# Altium footprint library Smart 4S and 5S switchable BMS [BQ769200].PcbLib: 27 footprints (part 2 of 2)
Each footprint in its own frame and in the unit in brackets; x right, y up, seen from the top. Pads: shape width x height; smd on the part's side, far side on the other; paste and mask are expansions set on the pad; w line width, h text height; cw(c..) or ccw(c..) is an arc to the next point about the centre after c.
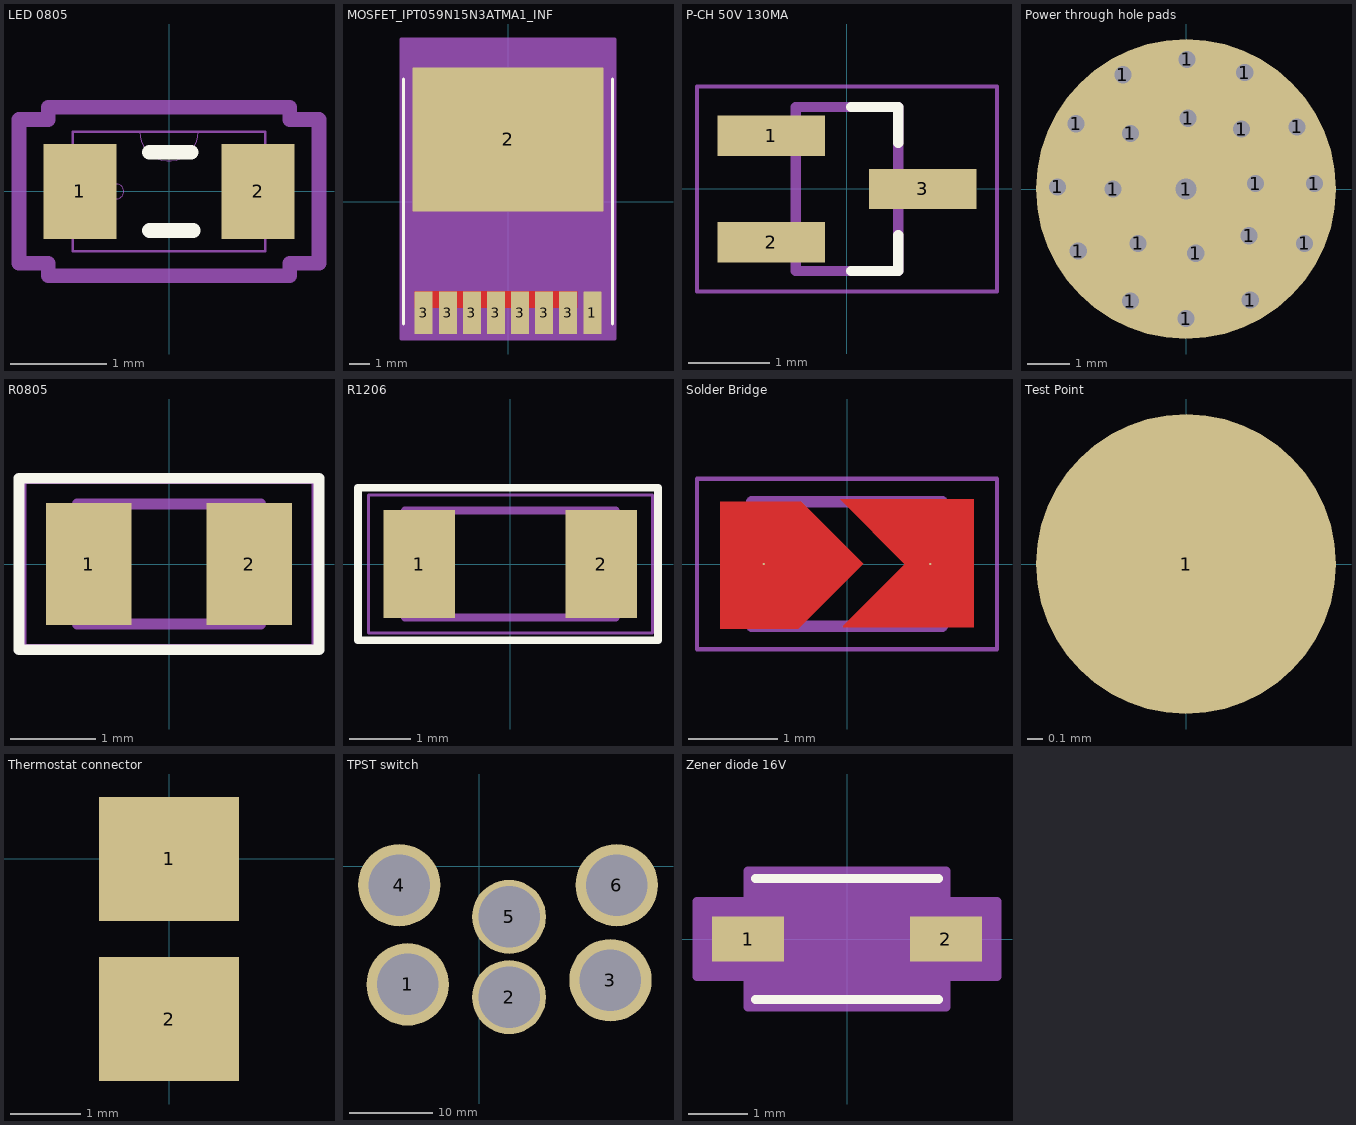
[diagram p1: the footprints below, top view; thin cyan lines are the x and y axes]

## LED 0805 [mil]
pads (2):
  rect 30x39 smd paste+0 mask+0: 1(-36.5,0) 2(36.5,0)
Top Overlay:
  lines w6: -8,-16 10,-16 ; -8,16 9,16
Mechanical 13:
  circle w0: c-21.5,0 r3
  lines w0: -12,24.5 ccw(c0,24.5) 12,24.5
  lines w1: -39.5,-24.5 -39.5,24.5 39.5,24.5 39.5,-24.5 -39.5,-24.5
Mechanical 15:
  lines w6: -61.5,-29.5 -49.5,-29.5 -49.5,-34.5 49.5,-34.5 49.5,-29.5 61.5,-29.5 61.5,29.5 49.5,29.5 49.5,34.5 -49.5,34.5 -49.5,29.5 -61.5,29.5 -61.5,-29.5
3D body "LED_LTST-C171_LTO.step": height 32.09, standoff 0, extent -39.49,-24.49 39.49,24.49

## MOSFET_IPT059N15N3ATMA1_INF [mil]
pads (9):
  rect 35x83 smd paste+0 mask+0: 1(164.5,-216.5) 3(-164.5,-216.5) 3(-117.5,-216.5) 3(-70.5,-216.5) 3(-23.5,-216.5) 3(23.5,-216.5) 3(70.5,-216.5) 3(117.5,-216.5)
  rect 372x281 smd paste-186 mask-186: 2(0,121.5)
Top Layer:
  region: 135,-175 -182,-175 -181.99,-206.99 135.02,-206.99
Top Overlay:
  lines w6: -204,-239 -204,239 ; 204,-239 204,239
Top Paste:
  region: 135,-175 -182,-175 -181.99,-206.99 135.02,-206.99
Top Solder:
  region: 135,-175 -182,-175 -181.99,-206.99 135.02,-206.99
Mechanical 13:
  circle w20: c-164.5,-141.5 r15
  lines w1: -199,-234 -199,234 199,234 199,-234 -199,-234
Mechanical 15:
  region: 209,317.5 -209,317.5 -209,-268 209,-268
  lines w6: -209,-268 209,-268 209,317.5 -209,317.5 -209,-268
3D body "IPT059N15N3ATMA1.STEP": height 94.49, standoff 0, extent -194.88,-244.82 194.88,214.82

## P-CH 50V 130MA [mm]
height 1.1
pads (3):
  rect 1.31x0.49 smd: 1(-0.925,0.65) 2(-0.925,-0.65) 3(0.925,0)
Top Overlay:
  lines w0.127: 0.05,-1 0.625,-1 0.625,-0.565 ; 0.05,1 0.625,1 0.625,0.565
Mechanical 13:
  lines w0.127: -0.625,-1 0.625,-1 0.625,1 -0.625,1 -0.625,-1
Mechanical 15:
  lines w0.05: -1.83,-1.25 1.83,-1.25 1.83,1.25 -1.83,1.25 -1.83,-1.25
3D body "step_temp.STEP": height 1.1, standoff 0, extent -1.05,-1.075 1.05,1.075

## Power through hole pads [mm]
pads (21):
  round 0.8 hole 0.4: 1(-2.997,0.051) 1(-2.565,1.524) 1(-2.515,-1.448) 1(-1.702,0) 1(-1.473,2.667) 1(-1.295,-2.616) 1(-1.295,1.295) 1(-1.118,-1.27) 1(0,-3.023) 1(0.025,3.023) 1(0.051,1.651) 1(0.229,-1.499) 1(1.295,1.397) 1(1.372,2.718) 1(1.473,-1.092) 1(1.499,-2.591) 1(1.626,0.127) 1(2.591,1.448) 1(2.769,-1.27) 1(2.997,0.127)
  round 7 hole 0.5: 1(0,0)

## R0805 [mm]
pads (2):
  rect 1x1.42 smd: 1(-0.935,0) 2(0.935,0)
Top Overlay:
  lines w0.127: -1.75,-1 -1.75,1 0,1 1.75,1 1.75,-1 -1.75,-1
Mechanical 13:
  lines w0.127: -1.07,-0.7 1.07,-0.7 1.07,0.7 -1.07,0.7 -1.07,-0.7
Mechanical 15:
  lines w0.05: -1.685,-0.96 1.685,-0.96 1.685,0.96 -1.685,0.96 -1.685,-0.96
3D body "step_temp.STEP": height 0.65, standoff 0, extent -1,-0.625 1,0.625

## R1206 [mm]
pads (2):
  rect 1.17x1.77 smd: 1(-1.494,0) 2(1.494,0)
Top Overlay:
  lines w0.127: -2.375,-1.25 -1.188,-1.25 1.187,-1.25 2.375,-1.25 ; -2.325,-1.25 -2.5,-1.25 -2.5,-0.625 -2.5,0.625 -2.5,1.25 0,1.25 2.25,1.25 2.425,1.25 2.425,-1.25
Mechanical 13:
  lines w0.127: -1.73,-0.88 1.73,-0.88 1.73,0.88 -1.73,0.88 -1.73,-0.88
Mechanical 15:
  lines w0.05: -2.331,-1.135 2.331,-1.135 2.331,1.135 -2.331,1.135 -2.331,-1.135
3D body "CR1206-FX-1000ELF.STEP": height 0.75, standoff 0, extent -1.6,-0.788 1.6,0.812

## Solder Bridge [mil]
pads (2):
  round 1 smd mask+1: 1(-36.81,0) 2(36.81,0)
Top Layer:
  region: 7.09,0.2 -21.65,-28.54 -56.1,-28.54 -56.1,27.56 -20.47,27.76
  region: -1.57,-27.95 -1.97,-27.56 25.59,0 -2.95,28.54 56.1,28.54 56.1,-27.98 36.76,-27.95
Mechanical 13:
  lines w5: -42.13,-27.56 42.13,-27.56 42.13,27.56 -42.13,27.56 -42.13,-27.56
Mechanical 15:
  lines w1.97: -66.34,-37.8 66.34,-37.8 66.34,37.8 -66.34,37.8 -66.34,-37.8

## Test Point [mm]
pads (1):
  round 2 smd: 1(0,0)

## Thermostat connector [mm]
pads (2):
  rect 2x1.77 smd: 1(0,0) 2(0,-2.286)

## TPST switch [mil]
pads (6):
  round 390 / inner round 300 / far side round 390 hole 291 paste-99999 mask+0: 1(-340,-560) 3(620,-540) 4(-380,-90) 6(650,-90)
  round 350 / inner round 300 / far side round 350 hole 291 paste-99999 mask+0: 2(140,-620) 5(140,-240)
3D body "ST34RE00.STEP": height 2258.16, standoff -366.14, extent -430.87,-759.29 710.06,579.29

## Zener diode 16V [mil]
pads (2):
  rect 48x30 smd paste+0 mask+0: 1(-66,0) 2(66,0)
Top Overlay:
  lines w6: -61,-40.5 61,-40.5 ; -61,40.5 61,40.5
Mechanical 13:
  lines w1: -56,-17.75 -38.25,-35.5 ; -56,17.75 -38.25,35.5 ; -76,-14 -76,14 -56,14 -56,-14 -76,-14 ; -56,-35.5 56,-35.5 56,35.5 -56,35.5 -56,-35.5 ; 56,-14 56,14 76,14 76,-14 56,-14
  text "*" at -58.5,-25 h50
Mechanical 15:
  region: -66,-25 -100,-25 -100,25 -66,25 -66,45.5 66,45.5 66,25 100,25 100,-25 66,-25 66,-45.5 -66,-45.5
  lines w6: -100,-25 -100,25 -66,25 -66,45.5 66,45.5 66,25 100,25 100,-25 66,-25 66,-45.5 -66,-45.5 -66,-25 -100,-25
3D body "SOD-123_ONS.step": height 53.11, standoff 0, extent -75.98,-35.51 75.98,35.51